# Altium footprint library connector.PcbLib: 49 footprints (part 1 of 4)
Each footprint in its own frame and in the unit in brackets; x right, y up, seen from the top. Pads: shape width x height; smd on the part's side, far side on the other; paste and mask are expansions set on the pad; w line width, h text height; cw(c..) or ccw(c..) is an arc to the next point about the centre after c.
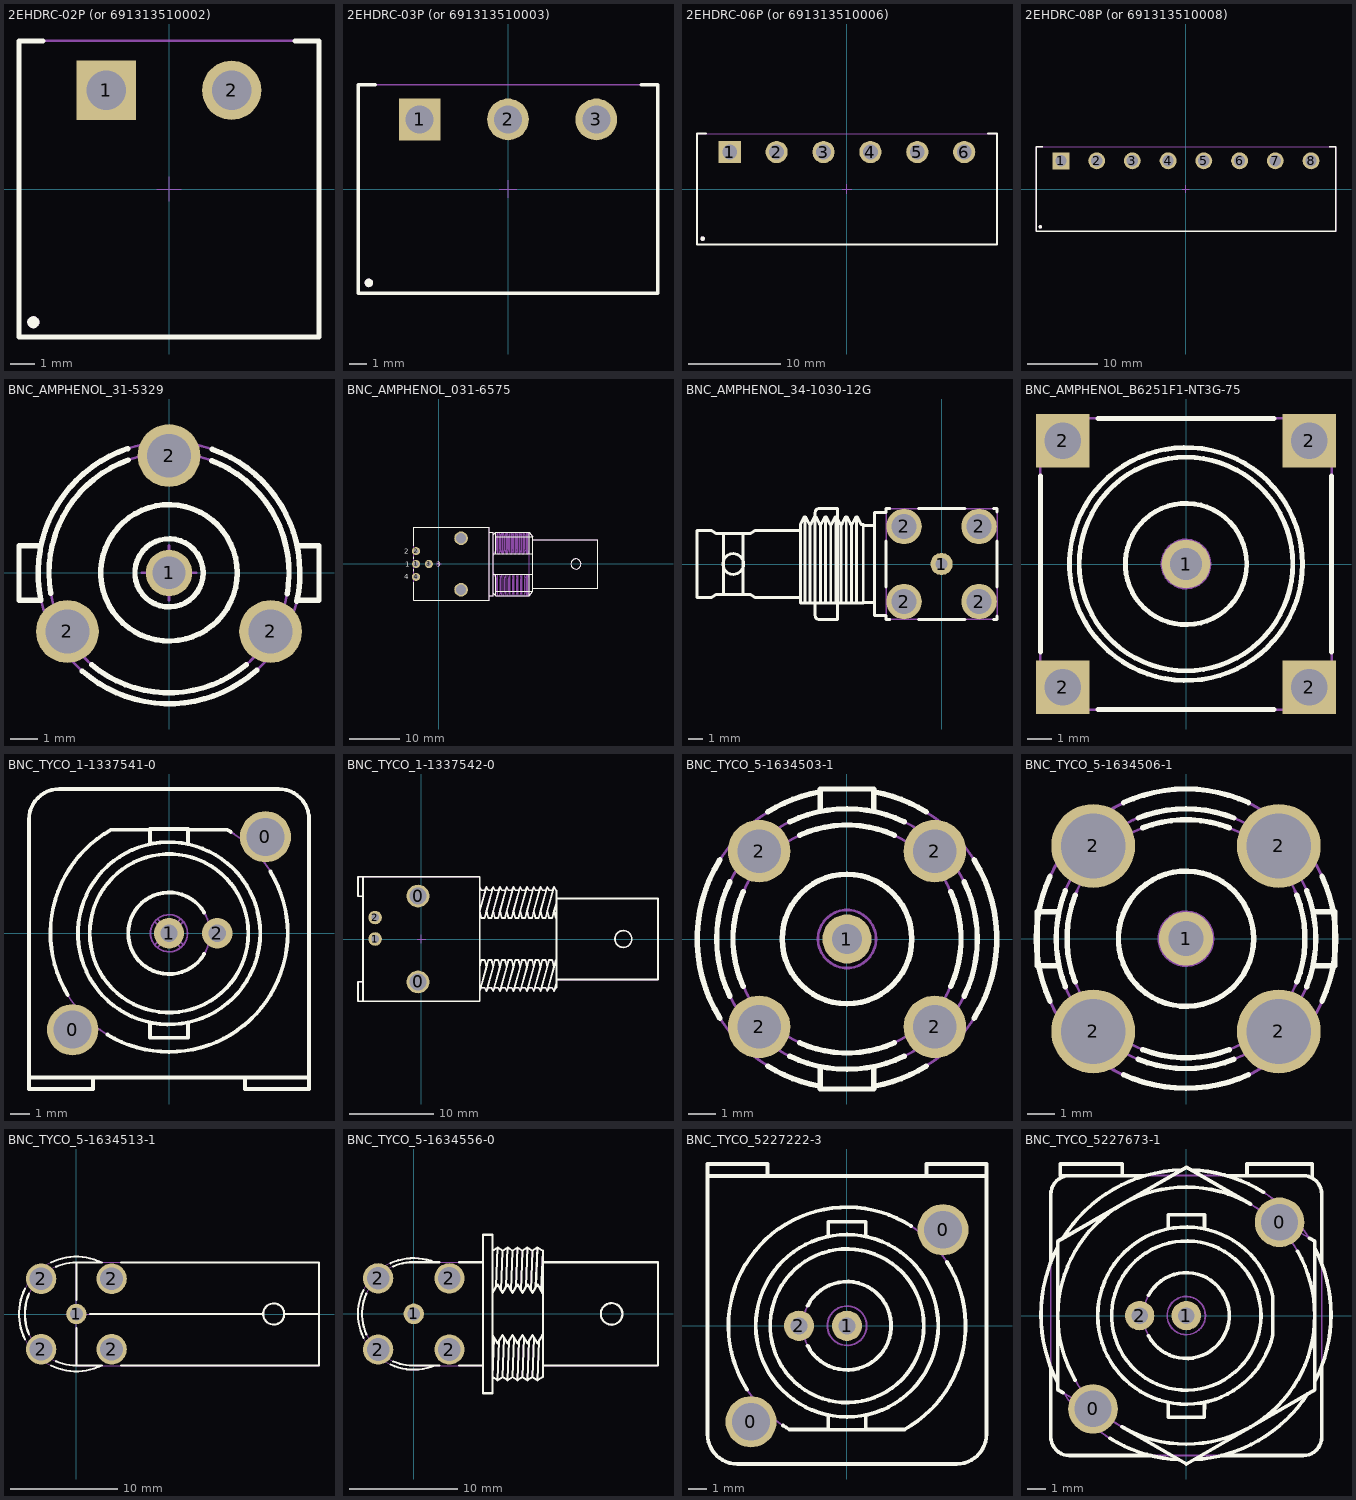
[diagram p0: the footprints below, top view; thin cyan lines are the x and y axes]

## 2EHDRC-02P (or 691313510002) [mm] "5,08mm - PCB Headers - Horizontal - Closed ends - 02p"
height 8.5
pads (4):
  rect 2.4x2.4 hole 1.6: 1(-2.54,4)
  round 2.4 hole 1.6: 2(2.54,4)
  round 0.5 on Top Overlay: ""(-5.5,-5.4)
  round 0.5 on Mech1: ""(-5.5,-5.4)
Top Overlay:
  lines w0.2: -6.08,6 -6.08,-6 6.08,-6 6.08,6 5.105,6 ; -6.075,6 -5.1,6
Mechanical 1:
  lines w0.1: -6.08,-6 6.08,-6 6.08,6 -6.08,6 -6.08,-6
Mechanical 15:
  lines w0.05: -0.5,0 0.5,0 ; 0,-0.5 0,0.5 ; -6.075,-6 -6.075,6 6.075,6 6.075,-6 -6.075,-6
3D body "691313510002.stp": height 8.55, standoff -3.45, extent -6.08,-6 6.08,6

## 2EHDRC-03P (or 691313510003) [mm] "5,08mm - PCB Headers - Horizontal - Closed ends - 03p"
height 8.5
pads (5):
  rect 2.4x2.4 hole 1.6: 1(-5.08,4)
  round 2.4 hole 1.6: 2(0,4) 3(5.08,4)
  round 0.5 on Mech1: ""(-8,-5.4)
  round 0.5 on Top Overlay: ""(-8,-5.4)
Top Overlay:
  lines w0.2: -7.625,6 -8.62,6 -8.62,-6 8.62,-6 8.62,6 7.65,6
Mechanical 1:
  lines w0.1: -8.62,-6 8.62,-6 8.62,6 -8.62,6 -8.62,-6
Mechanical 15:
  lines w0.05: -0.5,0 0.5,0 ; 0,-0.5 0,0.5 ; -8.625,-6 8.625,-6 8.625,6 -8.625,6 -8.625,-6
3D body "691313510003.stp": height 8.55, standoff -3.45, extent -8.62,-6 8.62,6

## 2EHDRC-06P (or 691313510006) [mm] "5,08mm - PCB Headers - Horizontal - Closed ends - 06p"
height 8.5
pads (8):
  rect 2.4x2.4 hole 1.6: 1(-12.7,4)
  round 2.4 hole 1.6: 2(-7.62,4) 3(-2.54,4) 4(2.54,4) 5(7.62,4) 6(12.7,4)
  round 0.5 on Top Overlay: ""(-15.625,-5.375)
  round 0.5 on Mech1: ""(-15.625,-5.375)
Top Overlay:
  lines w0.2: -15.275,6 -16.24,6 -16.24,-6 16.24,-6 16.24,6 15.275,6
Mechanical 1:
  lines w0.1: -16.24,-6 16.24,-6 16.24,6 -16.24,6 -16.24,-6
Mechanical 15:
  lines w0.05: -0.5,0 0.5,0 ; 0,-0.5 0,0.5 ; -16.24,-6 16.25,-6 16.25,6 -16.24,6 -16.24,-6
3D body "691313510006.stp": height 8.55, standoff -3.45, extent -16.24,-6 16.24,6

## 2EHDRC-08P (or 691313510008) [mm] "5,08mm - PCB Headers - Horizontal - Closed ends - 08p"
height 8.5
pads (10):
  rect 2.4x2.4 hole 1.6: 1(-17.78,4)
  round 2.4 hole 1.6: 2(-12.7,4) 3(-7.62,4) 4(-2.54,4) 5(2.54,4) 6(7.62,4) 7(12.7,4) 8(17.78,4)
  round 0.5 on Top Overlay: ""(-20.7,-5.375)
  round 0.5 on Mech1: ""(-20.7,-5.375)
Top Overlay:
  lines w0.2: -20.35,6 -21.32,6 -21.32,-6 21.32,-6 21.32,6 20.35,6
Mechanical 1:
  lines w0.1: -21.32,-6 -21.32,6 21.32,6 21.32,-6 -21.32,-6
Mechanical 15:
  lines w0.05: -0.5,0 0.5,0 ; 0,-0.5 0,0.5 ; -21.317,-6 -21.317,6 21.325,6 21.325,-6 -21.317,-6
3D body "691313510008.stp": height 8.55, standoff -3.45, extent -21.32,-6 21.32,6

## BNC_AMPHENOL_31-5329 [mm] "50 Ohm BNC PCB Receptacle (Jack), Post Terminal, 3 Legs"
height 17.6
pads (4):
  round 1.7 hole 1.2: 1(0,0)
  round 2.3 hole 1.6: 2(-3.724,-2.15) 2(0,4.3) 2(3.724,-2.15)
Top Overlay:
  circle w0.2: c0,0 r2.5
  circle w0.2: c0,0 r1.25
  lines w0.2: -4.695,1 -5.5,1 -5.5,-1 -4.695,-1 cw(c0,0) -1.518,4.554 ; -4.335,-0.752 cw(c0,0) -1.496,4.138 ; -3.175,-3.6 ccw(c0,0) 3.214,-3.565 ; -2.839,-3.362 ccw(c0,0) 2.824,-3.374 ; 1.569,4.111 cw(c0,0) 4.332,-0.772 ; 1.578,4.533 cw(c0,0) 4.685,-1.047 ; 4.695,-1 5.5,-1 5.5,1 4.695,1
Mechanical 1:
  circle w0.1: c0,0 r4.8
  circle w0.1: c0,0 r4.4
  circle w0.1: c0,0 r2.5
  lines w0.1: -4.695,-1 -5.5,-1 -5.5,1 -4.695,1 ; 4.695,-1 5.5,-1 5.5,1 4.695,1
Mechanical 15:
  circle w0.1: c0,0 r4.8
  lines w0.1: -4.695,-1 -5.5,-1 -5.5,1 -4.695,1 ; -1,0 0,0 ; 0,-1 0,0 ; 0,1 0,0 ; 1,0 0,0 ; 4.695,-1 5.5,-1 5.5,1 4.695,1
3D body "AMPHENOL_31-5329.stp": height 17, standoff -3.2, extent -5.5,-4.779 5.5,4.8

## BNC_AMPHENOL_031-6575 [mm] "Dual Port  Right Angle 50 Ohms Isolated BNC Receptacle (Jack)"
height 29.25
pads (6):
  round 1.6 hole 0.9: 1(-4.444,0) 2(-4.445,2.54) 3(-1.904,0) 4(-4.445,-2.54)
  round 2.7 hole 2: MECH(4.445,-5.08) MECH(4.445,5.08)
Top Overlay:
  circle w0.2: c27.117,0 r0.994
  lines w0.2: -4.844,-3.619 -4.844,-7.2 10.005,-7.2 10.005,7.2 -4.844,7.2 -4.844,3.619 ; -4.844,-1.461 -4.844,-1.078 ; -4.844,1.078 -4.844,1.461 ; 10.007,-6.25 10.757,-6.25 10.757,6.25 10.007,6.25 ; 10.757,-5.768 11.239,-6.25 ; 10.757,-1.986 18.59,-1.986 ; 10.757,1.989 18.59,1.989 ; 10.757,5.768 11.239,6.25 ; 11.239,-5.34 18.59,-5.34 ; 11.239,-1.986 11.239,-6.25 ; 11.239,1.989 11.239,6.25 ; 11.239,5.337 18.59,5.337 ; 17.85,-1.986 17.85,-6.25 ; 17.85,1.989 17.85,6.25 ; 18.59,-4.826 31.356,-4.826 31.356,4.826 18.59,4.826 ; 11.239,-6.25 17.85,-6.25 ; 11.239,6.25 17.85,6.25 ; 17.85,-6.25 18.59,-5.397 18.59,5.397 17.85,6.25
  text "3" at -0.444,-0.5 h1
  text "1" at -6.544,-0.5 h1
  text "2" at -6.745,2.04 h1
  text "4" at -6.745,-3.04 h1
Mechanical 1:
  drawing of 209 lines, arcs and shapes, not listed
  text "3" at -0.444,-0.5 h1
  text "4" at -6.745,-3.04 h1
  text "2" at -6.745,2.04 h1
  text "1" at -6.544,-0.5 h1
Mechanical 15:
  lines w0.1: -0.5,0 0,0 ; 0,-0.5 0,0 ; 0,0.5 0,0 ; 0.5,0 0,0 ; -4.844,-7.2 10.005,-7.2 10.005,7.2 -4.844,7.2 -4.844,-7.2
3D body "AMPHENOL_031-6575.stp": height 29.25, standoff -4.1, extent -4.846,-7.2 31.356,7.2

## BNC_AMPHENOL_34-1030-12G [mm] "75 Ohm HD-BNC Through Hole Right Angle PCB Jack"
height 8.5
pads (5):
  round 1.5 hole 0.8: 1(0,0)
  round 2.4 hole 1.7: 2(-2.54,-2.54) 2(-2.54,2.54) 2(2.54,-2.54) 2(2.54,2.54)
Top Overlay:
  circle w0.2: c-14.098,0 r0.7
  lines w0.2: -14.764,-2.055 -14.764,2.055 ; -13.431,-2.055 -13.431,2.055 ; -9.55,-2.275 -12.6,-2.275 -12.961,-2.055 -15.239,-2.055 -15.6,-2.275 -16.55,-2.275 -16.55,2.275 -15.6,2.275 -15.239,2.055 -12.961,2.055 -12.6,2.275 -9.55,2.275 ; -9.25,-2.64 -9.25,3.18 ; -8.9,-2.64 -8.9,2.68 ; -8.55,-2.64 -8.55,3.18 ; -8.2,-2.64 -8.2,2.68 ; -7.85,-2.64 -7.85,3.18 ; -7.5,-2.64 -7.5,2.68 ; -7.15,-2.64 -7.15,3.18 ; -6.8,-2.64 -6.8,2.68 ; -6.45,-2.64 -6.45,3.18 ; -6.1,-2.64 -6.1,2.68 ; -5.75,-2.64 -5.75,3.18 ; -5.3,-2.6 -4.55,-2.6 ; -5.3,2.6 -4.55,2.6 ; -3.75,-3.509 -3.75,-3.75 -3.509,-3.75 ; -3.75,-3.5 -4.55,-3.5 -4.55,3.5 -3.75,3.5 ; -3.75,-1.571 -3.75,1.571 ; -3.75,3.509 -3.75,3.75 -3.509,3.75 ; -1.571,-3.75 1.571,-3.75 ; -1.571,3.75 1.571,3.75 ; 3.509,-3.75 3.75,-3.75 3.75,-3.509 ; 3.509,3.75 3.75,3.75 3.75,3.509 ; 3.75,-1.571 3.75,1.571 ; -9.55,-2.64 -5.3,-2.64 -5.3,2.68 -5.45,2.68 -5.7,3.18 -5.8,3.18 -6.05,2.68 -6.15,2.68 -6.4,3.18 -6.5,3.18 -6.75,2.68 -6.85,2.68 -7.1,3.18 -7.2,3.18 -7.45,2.68 -7.55,2.68 -7.8,3.18 -7.9,3.18 -8.15,2.68 -8.25,2.68 -8.5,3.18 -8.6,3.18 -8.85,2.68 -8.95,2.68 -9.2,3.18 -9.3,3.18 -9.55,2.68 -9.55,-2.64 ; -8.55,-3.5 ccw(c-8.3,-3.5) -8.3,-3.75 -7.05,-3.75 -7.05,3.75 -8.3,3.75 ccw(c-8.3,3.5) -8.55,3.5 -8.55,-3.5
Mechanical 1:
  circle w0.1: c-14.098,0 r0.7
  lines w0.1: -14.764,-2.055 -14.764,2.055 ; -13.431,-2.055 -13.431,2.055 ; -9.55,-2.275 -12.6,-2.275 -12.961,-2.055 -15.239,-2.055 -15.6,-2.275 -16.55,-2.275 -16.55,2.275 -15.6,2.275 -15.239,2.055 -12.961,2.055 -12.6,2.275 -9.55,2.275 ; -9.25,-2.64 -9.25,3.18 ; -8.9,-2.64 -8.9,2.68 ; -8.55,-2.64 -8.55,3.18 ; -8.2,-2.64 -8.2,2.68 ; -7.85,-2.64 -7.85,3.18 ; -7.5,-2.64 -7.5,2.68 ; -7.15,-2.64 -7.15,3.18 ; -6.8,-2.64 -6.8,2.68 ; -6.45,-2.64 -6.45,3.18 ; -6.1,-2.64 -6.1,2.68 ; -5.75,-2.64 -5.75,3.18 ; -5.3,-2.6 -4.55,-2.6 ; -5.3,2.6 -4.55,2.6 ; -3.75,-3.5 -4.55,-3.5 -4.55,3.5 -3.75,3.5 ; -9.55,-2.64 -5.3,-2.64 -5.3,2.68 -5.45,2.68 -5.7,3.18 -5.8,3.18 -6.05,2.68 -6.15,2.68 -6.4,3.18 -6.5,3.18 -6.75,2.68 -6.85,2.68 -7.1,3.18 -7.2,3.18 -7.45,2.68 -7.55,2.68 -7.8,3.18 -7.9,3.18 -8.15,2.68 -8.25,2.68 -8.5,3.18 -8.6,3.18 -8.85,2.68 -8.95,2.68 -9.2,3.18 -9.3,3.18 -9.55,2.68 -9.55,-2.64 ; -8.55,-3.5 ccw(c-8.3,-3.5) -8.3,-3.75 -7.05,-3.75 -7.05,3.75 -8.3,3.75 ccw(c-8.3,3.5) -8.55,3.5 -8.55,-3.5 ; -3.75,-3.75 -3.75,3.75 3.75,3.75 3.75,-3.75 -3.75,-3.75
Mechanical 15:
  lines w0.1: -0.5,0 0,0 ; 0,-0.5 0,0 ; 0,0.5 0,0 ; 0.5,0 0,0 ; -3.75,-3.75 3.75,-3.75 3.75,3.75 -3.75,3.75 -3.75,-3.75
3D body "AMPHENOL_34-1030-12G_Part2.stp": height 8, standoff 0.5, extent -8.55,-3.75 -7.05,3.75
3D body "AMPHENOL_34-1030-12G_Part1.stp": height 8, standoff -2.4, extent -16.55,-3.75 3.75,3.75

## BNC_AMPHENOL_B6251F1-NT3G-75 [mm] "75 Ohm HD-BNC Through Hole Straight PCB Jack"
height 13
pads (5):
  round 2 hole 1.3: 1(0,0)
  rect 2.2x2.2 / inner round 2.2 / far side round 2.2 hole 1.5: 2(-5.08,-5.08) 2(-5.08,5.08) 2(5.08,-5.08) 2(5.08,5.08)
Top Overlay:
  circle w0.2: c0,0 r2.5
  circle w0.2: c0,0 r4.4
  circle w0.2: c0,0 r4.8
  lines w0.2: -6,-3.63 -6,3.63 ; -3.63,-6 3.63,-6 ; -3.63,6 3.63,6 ; 6,-3.63 6,3.63
Mechanical 1:
  circle w0.1: c0,0 r2.5
  circle w0.1: c0,0 r1
  circle w0.1: c0,0 r0.4
  circle w0.1: c0,0 r4.4
  circle w0.1: c0,0 r4.8
  lines w0.1: -6,-6 -6,6 6,6 6,-6 -6,-6
Mechanical 15:
  lines w0.1: -0.5,0 0,0 ; 0,-0.5 0,0 ; 0,0.5 0,0 ; 0.5,0 0,0 ; -6.004,-6.005 5.996,-6.005 5.996,5.995 -6.004,5.995 -6.004,-6.005
3D body "AMPHENOL_B6251F1-NT3G-75.stp": height 13, standoff -4, extent -6,-6 6,6

## BNC_TYCO_1-1337541-0 [mm] "50 Ohms  BNC Elbow PCB Socket With Mounting Posts"
height 35.5
pads (4):
  round 2.7 hole 2: 0(-5.08,-5.08) 0(5.08,5.08)
  round 1.6 hole 0.9: 1(0,0) 2(2.54,0)
Top Overlay:
  circle w0.2: c0,0 r4.8
  circle w0.2: c0,0 r4.175
  lines w0.2: -7.38,-7.6 7.38,-7.6 ; -5.34,-3.248 cw(c0,0) -3.06,5.45 -1,5.45 ; -4,-7.6 -4,-8.2 -7.38,-8.2 -7.38,6 cw(c-5.78,6) -5.78,7.6 5.78,7.6 cw(c5.78,6) 7.38,6 7.38,-8.2 4,-8.2 4,-7.6 ; -3.248,-5.34 ccw(c0,0) 5.34,3.248 ; -1,-4.695 -1,-5.5 1,-5.5 1,-4.695 ; -1,4.695 -1,5.5 1,5.5 1,4.695 ; 1,5.45 3.06,5.45 cw(c0,0) 3.248,5.34 ; 1.847,-1.1 cw(c0,0) 1.847,1.1
Mechanical 1:
  circle w0.1: c0,0 r4.8
  circle w0.1: c0,0 r4.175
  circle w0.1: c0,0 r2.15
  circle w0.1: c0,0 r0.625
  circle w0.1: c0,0 r0.975
  lines w0.1: -7.38,-7.6 7.38,-7.6 ; -4,-7.6 -4,-8.2 -7.38,-8.2 -7.38,6 cw(c-5.78,6) -5.78,7.6 5.78,7.6 cw(c5.78,6) 7.38,6 ; -1,-4.695 -1,-5.5 1,-5.5 1,-4.695 ; -1,4.695 -1,5.5 1,5.5 1,4.695 ; -1,5.45 -3.06,5.45 ccw(c0,0) 3.06,5.45 1,5.45 ; -0.757,-0.615 -0.507,-0.366 ; -0.757,0.615 -0.507,0.366 ; -0.615,-0.757 -0.366,-0.507 ; -0.615,0.757 -0.366,0.507 ; 0.366,-0.507 0.615,-0.757 ; 0.366,0.507 0.615,0.757 ; 0.507,-0.366 0.757,-0.615 ; 0.507,0.366 0.757,0.615 ; 4,-7.6 4,-8.2 7.38,-8.2 ; 7.374,-8.205 7.374,5.995
Mechanical 15:
  lines w0.1: -7.386,-7.605 7.374,-7.605 ; -4.006,-7.605 -4.006,-8.205 -7.386,-8.205 -7.386,5.995 cw(c-5.786,5.995) -5.786,7.595 5.774,7.595 cw(c5.774,5.995) 7.374,5.995 ; -0.5,0 0,0 ; 0,-0.5 0,0 ; 0,0.5 0,0 ; 0.5,0 0,0 ; 3.994,-7.605 3.994,-8.205 7.374,-8.205 ; 7.38,-8.2 7.38,6
3D body "TYCO_1-1337541-0.stp": height 35.5, standoff -4.25, extent -7.38,-8.2 7.38,7.6

## BNC_TYCO_1-1337542-0 [mm] "50 Ohms  BNC Elbow PCB Socket With Mounting Posts"
height 13.16
pads (4):
  round 2.7 hole 2: 0(-0.4,-5.08) 0(-0.4,5.08)
  round 1.6 hole 0.9: 1(-5.48,0) 2(-5.48,2.54)
Top Overlay:
  drawing of 177 lines, arcs and shapes, not listed
Mechanical 1:
  drawing of 177 lines, arcs and shapes, not listed
Mechanical 15:
  lines w0.1: -6.9,-7.35 -6.9,7.35 ; -6.9,-5.061 -7.5,-5.061 -7.5,-7.35 6.9,-7.35 6.9,7.35 -7.5,7.35 -7.5,5.061 -6.9,5.05 ; -0.5,0 0,0 ; 0,-0.5 0,0 ; 0,0.5 0,0 ; 0.5,0 0,0
3D body "TYCO_1-1337542-0.stp": height 13.16, standoff -4.3, extent -7.5,-7.35 28,7.35

## BNC_TYCO_5-1634503-1 [mm] "Low Profile Straight 50 Ohm BNC PCB Socket"
height 13.7
pads (5):
  round 1.8 hole 1.1: 1(0,0)
  round 2.3 hole 1.6: 2(-3.23,-3.23) 2(-3.23,3.23) 2(3.23,-3.23) 2(3.23,3.23)
Top Overlay:
  circle w0.2: c0,0 r2.38
  lines w0.2: -4.665,-2.914 cw(c0,0) -4.665,2.914 ; -4.299,-2.112 cw(c0,0) -4.299,2.112 ; -3.813,-1.739 cw(c0,0) -3.813,1.739 ; -2.914,-4.665 ccw(c0,0) -0.99,-5.41 ; -2.914,4.665 cw(c0,0) -0.99,5.41 ; -2.112,-4.299 ccw(c0,0) 2.112,-4.299 ; -2.112,4.299 cw(c0,0) 2.112,4.299 ; -1.739,-3.813 ccw(c0,0) 1.739,-3.813 ; -1.739,3.813 cw(c0,0) 1.739,3.813 ; -0.99,-4.686 -0.99,-5.51 0.991,-5.51 0.991,-4.686 ; -0.99,4.686 -0.99,5.51 0.991,5.51 0.991,4.686 ; 0.991,-5.41 ccw(c0,0) 2.914,-4.665 ; 0.991,5.41 cw(c0,0) 2.914,4.665 ; 3.813,-1.739 ccw(c0,0) 3.813,1.739 ; 4.299,-2.112 ccw(c0,0) 4.299,2.112 ; 4.665,-2.914 ccw(c0,0) 4.665,2.914
Mechanical 1:
  circle w0.1: c0,0 r4.79
  circle w0.1: c0,0 r4.191
  circle w0.1: c0,0 r2.38
  circle w0.1: c0,0 r1.067
  circle w0.1: c0,0 r0.762
  lines w0.1: -0.99,-5.41 cw(c0,0) -0.99,5.41 ; -0.99,-4.686 -0.99,-5.51 0.991,-5.51 0.991,-4.686 ; -0.99,4.686 -0.99,5.51 0.991,5.51 0.991,4.686 ; 0.991,-5.41 ccw(c0,0) 0.991,5.41
Mechanical 15:
  lines w0.1: -0.5,0 0,0 ; 0,-0.5 0,0 ; 0,0.5 0,0 ; 0.5,0 0,0 ; -0.99,-5.51 0.991,-5.51 0.991,-5.41 ccw(c0,0) 0.991,5.41 0.991,5.51 -0.99,5.51 -0.99,5.41 ccw(c0,0) -0.99,-5.41 -0.99,-5.51
3D body "TYCO_5-1634503-1.stp": height 13.7, standoff -4.9, extent -5.5,-5.51 5.5,5.51

## BNC_TYCO_5-1634506-1 [mm] "50 Ohm BNC PCB Receptacle (Jack), Post Terminal, 4 Legs"
height 16.7
pads (5):
  round 2 hole 1.3: 1(0,0)
  round 3.1 hole 2.4: 2(-3.43,-3.43) 2(-3.43,3.43) 2(3.43,-3.43) 2(3.43,3.43)
Top Overlay:
  circle w0.2: c0,0 r2.5
  lines w0.2: -5.027,-2.311 cw(c0,0) -5.027,2.311 ; -4.695,-1 -5.5,-1 -5.5,1 -4.695,1 ; -4.46,-1.774 cw(c0,0) -4.46,1.774 ; -4.099,-1.598 cw(c0,0) -4.099,1.598 ; -2.311,-5.027 ccw(c0,0) 2.311,-5.027 ; -2.311,5.027 cw(c0,0) 2.311,5.027 ; -1.774,-4.46 ccw(c0,0) 1.774,-4.46 ; -1.774,4.46 cw(c0,0) 1.774,4.46 ; -1.598,-4.099 ccw(c0,0) 1.598,-4.099 ; -1.598,4.099 cw(c0,0) 1.598,4.099 ; 4.099,-1.598 ccw(c0,0) 4.099,1.598 ; 4.46,-1.774 ccw(c0,0) 4.46,1.774 ; 4.695,-1 5.5,-1 5.5,1 4.695,1 ; 5.027,-2.311 ccw(c0,0) 5.027,2.311
Mechanical 1:
  circle w0.1: c0,0 r0.4
  circle w0.1: c0,0 r1
  circle w0.1: c0,0 r2.5
  circle w0.1: c0,0 r4.8
  circle w0.1: c0,0 r4.4
  circle w0.1: c0,0 r5.533
  lines w0.1: -4.695,-1 -5.5,-1 -5.5,1 -4.695,1 ; 4.695,-1 5.5,-1 5.5,1 4.695,1
Mechanical 15:
  circle w0.1: c0,-0.025 r5.533
  lines w0.1: -1,0 0,0 ; 0,-1 0,0 ; 0,1 0,0 ; 1,0 0,0
3D body "TYCO_5-1634506-1.stp": height 16.7, standoff -3.18, extent -5.5,-5.5 5.5,5.5

## BNC_TYCO_5-1634513-1 [mm] "Low Profile Elbow 50 Ohm BNC PCB Socket"
height 11.65
pads (5):
  round 1.9 hole 1.2: 1(0,0)
  round 2.85 hole 2.15: 2(-3.3,-3.3) 2(-3.3,3.3) 2(3.3,-3.3) 2(3.3,3.3)
Top Overlay:
  circle w0.2: c18.486,0 r0.991
  lines w0.2: -4.819,-2.381 cw(c0,0) -4.819,2.381 ; -4.424,-1.926 cw(c0,0) -4.424,1.926 ; -2.381,-4.819 ccw(c0,0) 2.369,-4.825 ; -2.381,4.819 cw(c0,0) 2.369,4.825 ; -1.926,-4.424 ccw(c0,0) 0,-4.825 ; -1.926,4.424 cw(c0,0) 0,4.825 ; 0,-1.3 0,-4.825 ; 0,1.3 0,4.825 ; 1.3,0 17.495,0 ; 2.392,-4.825 0,-4.825 ; 2.392,4.825 0,4.825 ; 4.208,-4.825 22.725,-4.825 22.725,4.825 4.208,4.825 ; 19.476,0 22.725,0
Mechanical 1:
  circle w0.1: c18.486,0 r0.991
  lines w0.1: 0,0 17.495,0 ; 2.369,-4.825 cw(c0,0) 2.369,4.825 ; 19.476,0 22.725,0 ; 0,-4.825 cw(c0,0) 0,4.825 ; 0,-4.825 0,4.825 ; 0,-4.825 22.725,-4.825 22.725,4.825 0,4.825
Mechanical 15:
  circle w0.1: c18.486,0 r0.991
  lines w0.05: -1,0 0,0 ; 0,-1 0,0 ; 0,1 0,0 ; 1,0 0,0
  lines w0.1: 0,0 17.495,0 ; 2.369,-4.825 cw(c0,0) 2.369,4.825 ; 19.476,0 22.725,0 ; 0,-4.825 cw(c0,0) 0,4.825 ; 0,-4.825 22.725,-4.825 22.725,4.825 0,4.825 ; 0,-4.825 0,4.825
3D body "TYCO_5-1634513-1.stp": height 11.65, standoff -3.5, extent -5.375,-5.375 22.725,5.375

## BNC_TYCO_5-1634556-0 [mm] "Right Angle Bulkhead 75 Ohms BNC"
height 10.94
pads (5):
  round 1.9 hole 1.2: 1(0,0)
  round 2.8 hole 2.1: 2(-3.3,-3.3) 2(-3.3,3.3) 2(3.3,-3.3) 2(3.3,3.3)
Top Overlay:
  circle w0.2: c18.33,0 r1
  lines w0.2: -4.662,-2.229 cw(c0,-0.001) -4.661,2.229 ; -4.398,-1.899 cw(c0,0) -4.398,1.899 ; -2.146,-4.701 ccw(c0,-0.001) 1.939,-4.79 ; -2.145,4.7 cw(c0,-0.001) 1.935,4.79 ; -1.899,-4.398 ccw(c-0.082,-0.382) -0.082,-4.79 2.4,-4.79 ; -1.899,4.398 cw(c-0.082,0.382) -0.082,4.79 2.4,4.79 ; 4.2,-4.79 6.42,-4.79 ; 4.2,4.79 6.42,4.79 ; 6.42,-7.35 7.31,-7.35 7.31,7.331 6.42,7.331 6.42,-7.331 ; 7.31,-1.965 7.77,-2.732 8.23,-1.965 8.69,-2.732 9.15,-1.965 9.61,-2.732 10.07,-1.965 10.53,-2.732 10.99,-1.965 11.45,-2.732 11.91,-1.965 11.96,-1.965 ; 7.31,1.965 7.77,2.732 8.23,1.965 8.69,2.732 9.15,1.965 9.61,2.732 10.07,1.965 10.53,2.732 10.99,1.965 11.45,2.732 11.91,1.965 11.96,1.965 ; 7.31,5.85 7.77,6.15 ; 7.45,-2.199 7.31,-5.85 7.77,-6.15 ; 7.63,2.499 7.77,6.15 ; 7.91,-2.499 7.77,-6.15 ; 8.09,2.199 8.23,5.85 ; 8.37,-2.199 8.23,-5.85 ; 8.55,2.499 8.69,6.15 ; 8.83,-2.499 8.69,-6.15 ; 9.01,2.199 9.15,5.85 ; 9.29,-2.199 9.15,-5.85 ; 9.47,2.499 9.61,6.15 ; 9.75,-2.499 9.61,-6.15 ; 9.93,2.199 10.07,5.85 ; 10.21,-2.199 10.07,-5.85 ; 10.39,2.499 10.53,6.15 ; 10.67,-2.499 10.53,-6.15 ; 10.85,2.199 10.99,5.85 ; 11.13,-2.199 10.99,-5.85 ; 11.31,2.499 11.45,6.15 ; 11.606,-2.471 11.45,-6.15 ; 11.803,2.144 11.96,5.85 ; 11.96,-4.79 22.63,-4.79 22.63,4.79 11.96,4.79 ; 7.77,-6.15 8.23,-5.85 ; 7.77,6.15 8.23,5.85 ; 8.23,-5.85 8.69,-6.15 ; 8.23,5.85 8.69,6.15 ; 8.69,-6.15 9.15,-5.85 ; 8.69,6.15 9.15,5.85 ; 9.15,-5.85 9.61,-6.15 ; 9.15,5.85 9.61,6.15 ; 9.61,-6.15 10.07,-5.85 ; 9.61,6.15 10.07,5.85 ; 10.07,-5.85 10.53,-6.15 ; 10.07,5.85 10.53,6.15 ; 10.53,-6.15 10.99,-5.85 ; 10.53,6.15 10.99,5.85 ; 10.99,-5.85 11.45,-6.15 ; 10.99,5.85 11.45,6.15 ; 11.45,-6.15 11.96,-5.85 11.96,5.85 ; 11.45,6.15 11.96,5.85
Mechanical 1:
  circle w0.1: c18.33,0 r1
  lines w0.1: 1.935,4.79 ccw(c0,-0.001) 1.939,-4.79 ; 6.42,-7.35 7.31,-7.35 7.31,7.331 6.42,7.331 6.42,-7.331 ; 6.42,-4.79 0,-4.79 cw(c0,0) 0,4.79 6.42,4.79 ; 7.31,-1.965 7.77,-2.732 8.23,-1.965 8.69,-2.732 9.15,-1.965 9.61,-2.732 10.07,-1.965 10.53,-2.732 10.99,-1.965 11.45,-2.732 11.91,-1.965 ; 7.31,1.965 7.77,2.732 8.23,1.965 8.69,2.732 9.15,1.965 9.61,2.732 10.07,1.965 10.53,2.732 10.99,1.965 11.45,2.732 11.91,1.965 ; 7.31,5.85 7.77,6.15 ; 7.45,-2.199 7.31,-5.85 7.77,-6.15 ; 7.63,2.499 7.77,6.15 ; 7.91,-2.499 7.77,-6.15 ; 8.09,2.199 8.23,5.85 ; 8.37,-2.199 8.23,-5.85 ; 8.55,2.499 8.69,6.15 ; 8.83,-2.499 8.69,-6.15 ; 9.01,2.199 9.15,5.85 ; 9.29,-2.199 9.15,-5.85 ; 9.47,2.499 9.61,6.15 ; 9.75,-2.499 9.61,-6.15 ; 9.93,2.199 10.07,5.85 ; 10.21,-2.199 10.07,-5.85 ; 10.39,2.499 10.53,6.15 ; 10.67,-2.499 10.53,-6.15 ; 10.85,2.199 10.99,5.85 ; 11.13,-2.199 10.99,-5.85 ; 11.31,2.499 11.45,6.15 ; 11.606,-2.471 11.45,-6.15 ; 11.803,2.144 11.96,5.85 ; 11.96,-4.79 22.63,-4.79 22.63,4.79 11.96,4.79 ; 7.77,-6.15 8.23,-5.85 ; 7.77,6.15 8.23,5.85 ; 8.23,-5.85 8.69,-6.15 ; 8.23,5.85 8.69,6.15 ; 8.69,-6.15 9.15,-5.85 ; 8.69,6.15 9.15,5.85 ; 9.15,-5.85 9.61,-6.15 ; 9.15,5.85 9.61,6.15 ; 9.61,-6.15 10.07,-5.85 ; 9.61,6.15 10.07,5.85 ; 10.07,-5.85 10.53,-6.15 ; 10.07,5.85 10.53,6.15 ; 10.53,-6.15 10.99,-5.85 ; 10.53,6.15 10.99,5.85 ; 10.99,-5.85 11.45,-6.15 ; 10.99,5.85 11.45,6.15 ; 11.45,-6.15 11.96,-5.85 11.96,5.85 ; 11.45,6.15 11.96,5.85 ; 11.91,-1.965 11.96,-1.965 11.91,-1.965 ; 11.91,1.965 11.96,1.965 11.91,1.965
Mechanical 15:
  circle w0.1: c18.33,0 r1
  lines w0.1: -0.5,0 0,0 ; 0,-0.5 0,0 ; 0,0.5 0,0 ; 0.5,0 0,0 ; 1.935,4.79 ccw(c0,-0.001) 1.939,-4.79 ; 6.42,-7.35 7.31,-7.35 7.31,7.331 6.42,7.331 6.42,-7.331 ; 6.42,-4.79 0,-4.79 cw(c0,0) 0,4.79 6.42,4.79 ; 7.31,-1.965 7.77,-2.732 8.23,-1.965 8.69,-2.732 9.15,-1.965 9.61,-2.732 10.07,-1.965 10.53,-2.732 10.99,-1.965 11.45,-2.732 11.91,-1.965 ; 7.31,1.965 7.77,2.732 8.23,1.965 8.69,2.732 9.15,1.965 9.61,2.732 10.07,1.965 10.53,2.732 10.99,1.965 11.45,2.732 11.91,1.965 ; 7.31,5.85 7.77,6.15 ; 7.45,-2.199 7.31,-5.85 7.77,-6.15 ; 7.63,2.499 7.77,6.15 ; 7.91,-2.499 7.77,-6.15 ; 8.09,2.199 8.23,5.85 ; 8.37,-2.199 8.23,-5.85 ; 8.55,2.499 8.69,6.15 ; 8.83,-2.499 8.69,-6.15 ; 9.01,2.199 9.15,5.85 ; 9.29,-2.199 9.15,-5.85 ; 9.47,2.499 9.61,6.15 ; 9.75,-2.499 9.61,-6.15 ; 9.93,2.199 10.07,5.85 ; 10.21,-2.199 10.07,-5.85 ; 10.39,2.499 10.53,6.15 ; 10.67,-2.499 10.53,-6.15 ; 10.85,2.199 10.99,5.85 ; 11.13,-2.199 10.99,-5.85 ; 11.31,2.499 11.45,6.15 ; 11.606,-2.471 11.45,-6.15 ; 11.803,2.144 11.96,5.85 ; 11.96,-4.79 22.63,-4.79 22.63,4.79 11.96,4.79 ; 7.77,-6.15 8.23,-5.85 ; 7.77,6.15 8.23,5.85 ; 8.23,-5.85 8.69,-6.15 ; 8.23,5.85 8.69,6.15 ; 8.69,-6.15 9.15,-5.85 ; 8.69,6.15 9.15,5.85 ; 9.15,-5.85 9.61,-6.15 ; 9.15,5.85 9.61,6.15 ; 9.61,-6.15 10.07,-5.85 ; 9.61,6.15 10.07,5.85 ; 10.07,-5.85 10.53,-6.15 ; 10.07,5.85 10.53,6.15 ; 10.53,-6.15 10.99,-5.85 ; 10.53,6.15 10.99,5.85 ; 10.99,-5.85 11.45,-6.15 ; 10.99,5.85 11.45,6.15 ; 11.45,-6.15 11.96,-5.85 11.96,5.85 ; 11.45,6.15 11.96,5.85
3D body "TYCO_5-1634556-0.stp": height 11.66, standoff -3.58, extent -5.167,-7.382 22.63,7.382

## BNC_TYCO_5227222-3 [mm] "50 Ohms , BNC Vertical Socket"
height 35.57
pads (4):
  round 2.7 hole 2: 0(-5.08,-5.08) 0(5.08,5.08)
  round 1.6 hole 0.9: 1(0,0) 2(-2.54,0)
Top Overlay:
  circle w0.2: c0,0 r4.064
  circle w0.2: c0,0 r4.826
  lines w0.2: -7.379,7.925 7.379,7.925 ; -5.278,-3.392 cw(c0,0) 3.392,5.278 ; -4.204,7.925 -4.204,8.56 -7.379,8.56 -7.379,-5.74 ccw(c-5.804,-5.74) -5.804,-7.315 5.804,-7.315 ccw(c5.804,-5.74) 7.379,-5.74 7.379,8.56 4.204,8.56 4.204,7.925 ; -3.392,-5.278 ccw(c0,0) -3.043,-5.486 -0.991,-5.486 ; -2.085,-1.056 ccw(c0,0) -2.085,1.056 ; -0.991,-4.723 -0.991,-5.499 0.991,-5.499 0.991,-4.723 ; -0.991,4.723 -0.991,5.499 0.991,5.499 0.991,4.723 ; 0.991,-5.486 3.043,-5.486 ccw(c0,0) 5.278,3.392
Mechanical 1:
  circle w0.1: c0,0 r2.337
  circle w0.1: c0,0 r0.508
  circle w0.1: c0,0 r1.041
  circle w0.1: c0,0 r4.064
  circle w0.1: c0,0 r4.826
  lines w0.1: -7.379,7.925 7.379,7.925 ; -4.204,7.925 -4.204,8.56 -7.379,8.56 -7.379,-5.74 ccw(c-5.804,-5.74) -5.804,-7.315 5.804,-7.315 ccw(c5.804,-5.74) 7.379,-5.74 7.379,8.56 4.204,8.56 4.204,7.925 ; -0.991,-5.486 -3.043,-5.486 cw(c0,0) 3.043,-5.486 0.991,-5.486 ; -0.991,-4.723 -0.991,-5.499 0.991,-5.499 0.991,-4.723 ; -0.991,4.723 -0.991,5.499 0.991,5.499 0.991,4.723
Mechanical 15:
  lines w0.05: -0.5,0 0,0 ; 0,-0.5 0,0 ; 0,0.5 0,0 ; 0.5,0 0,0
  lines w0.1: -7.379,7.925 7.379,7.925 ; -4.204,7.925 -4.204,8.56 -7.379,8.56 -7.379,-5.74 ccw(c-5.804,-5.74) -5.804,-7.315 5.804,-7.315 ccw(c5.804,-5.74) 7.379,-5.74 7.379,8.56 4.204,8.56 4.204,7.925
3D body "TYCO_5227222-3.stp": height 35.56, standoff -5.71, extent -7.379,-7.315 7.379,8.554

## BNC_TYCO_5227673-1 [mm] "50 Ohms , BNC Vertical Socket"
height 36.23
pads (4):
  round 2.7 hole 2: 0(-5.08,-5.08) 0(5.08,5.08)
  round 1.6 hole 0.9: 1(0,0) 2(-2.54,0)
Top Overlay:
  circle w0.2: c0,0 r4.064
  lines w0.2: -7.379,-2.825 -7.379,-6.604 ccw(c-6.363,-6.604) -6.363,-7.62 -1.949,-7.62 ; -7.379,2.905 -7.379,6.604 cw(c-6.363,6.604) -6.363,7.62 ; -7,-3.653 cw(c-0.017,0.04) -7,3.734 ; -6.737,4.193 cw(c-0.017,0.04) -0.253,7.937 ; -6.712,-4.208 -7,-4.041 -7,4.041 0,8.083 3.509,6.057 ccw(c0,0) -6.057,-3.509 ; -4.161,-6.686 ccw(c-0.017,0.04) -0.403,-7.85 ; -3.492,7.62 -3.492,8.255 -6.858,8.255 -6.858,7.62 -6.363,7.62 ; -2.243,7.62 -6.363,7.62 ; -2.061,-1.1 ccw(c0,0) -2.061,1.1 ; -0.991,-4.723 -0.991,-5.537 0.984,-5.537 0.991,-4.723 ; -0.991,4.723 -0.991,5.486 0.991,5.486 0.991,4.723 ; 0.255,7.935 cw(c-0.017,0.04) 4.212,6.713 ; 0.406,-7.849 ccw(c-0.017,0.04) 6.604,-4.27 ; 1.915,-7.62 6.363,-7.62 ccw(c6.363,-6.604) 7.379,-6.604 7.379,-2.738 ; 2.209,7.62 6.363,7.62 cw(c6.363,6.604) 7.379,6.604 7.379,2.818 ; 3.302,7.62 3.302,8.255 6.858,8.255 6.858,7.491 ; 6.057,3.509 cw(c0,0) -3.509,-6.057 0,-8.083 7,-4.041 7,4.041 6.712,4.208 ; 7,-3.59 ccw(c-0.017,0.04) 7,3.67 ; 4.712,-1.044 cw(c0,0) 4.712,1.044 4.712,-1.044
Mechanical 1:
  circle w0.1: c0,0 r7
  circle w0.1: c0,0 r2.337
  circle w0.1: c0,0 r0.508
  circle w0.1: c0,0 r1.041
  circle w0.1: c0,0 r4.064
  lines w0.1: -7.379,-2.825 -7.379,-6.604 ccw(c-6.363,-6.604) -6.363,-7.62 -1.949,-7.62 ; -7.379,2.905 -7.379,6.604 cw(c-6.363,6.604) -6.363,7.62 ; -7,-3.653 cw(c-0.017,0.04) -7,3.734 ; -6.737,4.193 cw(c-0.017,0.04) -0.253,7.937 ; -6.657,-4.239 ccw(c-0.017,0.04) -0.403,-7.85 ; -3.492,7.62 -3.492,8.255 -6.858,8.255 -6.858,7.62 -6.363,7.62 ; -2.243,7.62 -6.363,7.62 ; -0.991,-4.723 -0.991,-5.537 0.984,-5.537 0.991,-4.723 ; -0.991,4.723 -0.991,5.486 0.991,5.486 0.991,4.723 ; 0.255,7.935 cw(c-0.017,0.04) 6.685,4.223 ; 0.406,-7.849 ccw(c-0.017,0.04) 6.604,-4.27 ; 1.915,-7.62 6.363,-7.62 ccw(c6.363,-6.604) 7.379,-6.604 7.379,-2.738 ; 2.209,7.62 6.363,7.62 cw(c6.363,6.604) 7.379,6.604 7.379,2.818 ; 3.302,7.62 3.302,8.255 6.858,8.255 6.858,7.491 ; 7,-3.59 ccw(c-0.017,0.04) 7,3.67 ; -7,-4.041 0,-8.083 7,-4.041 7,4.041 0,8.083 -7,4.041 -7,-4.041 ; 4.712,-1.044 cw(c0,0) 4.712,1.044 4.712,-1.044
Mechanical 15:
  lines w0.1: -3.492,7.62 -3.492,8.255 -6.858,8.255 -6.858,7.62 -6.363,7.62 ; -0.5,0 0,0 ; 0,-0.5 0,0 ; 0,0.5 0,0 ; 0.5,0 0,0 ; 3.302,7.62 3.302,8.255 6.858,8.255 6.858,7.491 ; -6.363,7.62 ccw(c-6.363,6.604) -7.379,6.604 -7.379,-2.825 -7.379,-6.604 ccw(c-6.363,-6.604) -6.363,-7.62 1.915,-7.62 6.363,-7.62 ccw(c6.363,-6.604) 7.379,-6.604 7.379,-2.738 7.379,6.604 ccw(c6.363,6.604) 6.363,7.62 2.209,7.62 -6.363,7.62
3D body "TYCO_5227673-1_Part1.stp": height 35.56, standoff -5.71, extent -7.379,-7.62 7.379,8.255
3D body "TYCO_5227673-1_Part2.stp": height 22.43, standoff 19.93, extent -7,-8.083 7,8.083
3D body "TYCO_5227673-1_Part3.stp": height 19.93, standoff 19.16, extent -7.916,-7.86 7.883,7.94